# Altium schematic symbol library DS1021-1_3SF11-B.SchLib: 1 symbol
Pins are listed as number, name and electrical type; pins without a type are passive.

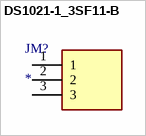
[diagram p0: symbol DS1021-1_3SF11-B]

## DS1021-1_3SF11-B
designator JM?
Connector; Manufacturer_Name: Connfly; Manufacturer_Part_Number: DS1021-1*3SF11-B; Datasheet Link: http://cn.connfly.group/static/upload/file/pdf/DS1021.pdf; Height: 5.75mm
footprint HDRV3W64P0X254_1X3_762X250X575P
pins: 1, 2, 3